# Altium schematic symbol library 4x7SegmentDisplay.Schlib: 1 symbol
Pins are listed as number, name and electrical type; pins without a type are passive.

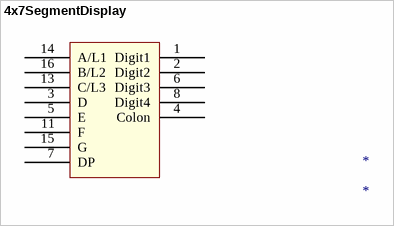
[diagram p0: symbol 4x7SegmentDisplay]

## 4x7SegmentDisplay
designator *
pins: 1 Digit1, 2 Digit2, 3 D, 4 Colon, 5 E, 6 Digit3, 7 DP, 8 Digit4, 11 F, 13 C/L3, 14 A/L1, 15 G, 16 B/L2